# Altium integrated library 12401610E4_2A.IntLib: 1 symbol
Pins are listed as number, name and electrical type; pins without a type are passive.

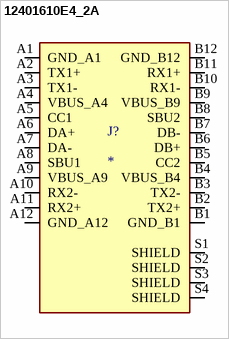
[diagram p0: symbol 12401610E4_2A]

## 12401610E4_2A
designator J?
USB3.2 GEN2, Type C, Top mount, CH 1.58mm, Dual Row SMT; MP: 12401610E4#2A; MF: Amphenol ICC; Availability: In Stock; Purchase-URL: https://pricing.snapeda.com/search/part/12401610E4#2A/?ref=eda; Check_prices: https://www.snapeda.com/parts/12401610E4%232A/Amphenol+FCI/view-part/?ref=eda; Price: None; Value: *; SnapEDA_Link: https://www.snapeda.com/parts/12401610E4%232A/Amphenol+FCI/view-part/?ref=snap; Package: None
footprint AMPHENOL_12401610E4_2A
pins: A1 GND_A1, A2 TX1+, A3 TX1-, A4 VBUS_A4, A5 CC1, A6 DA+, A7 DA-, A8 SBU1, A9 VBUS_A9, A10 RX2-, A11 RX2+, A12 GND_A12, B1 GND_B1, B2 TX2+, B3 TX2-, B4 VBUS_B4, B5 CC2, B6 DB+, B7 DB-, B8 SBU2, B9 VBUS_B9, B10 RX1-, B11 RX1+, B12 GND_B12, S1 SHIELD, S2 SHIELD, S3 SHIELD, S4 SHIELD